# Altium footprint library THD LED Pad lib.PcbLib: 2 footprints
Each footprint in its own frame and in the unit in brackets; x right, y up, seen from the top. Pads: shape width x height; smd on the part's side, far side on the other; paste and mask are expansions set on the pad; w line width, h text height; cw(c..) or ccw(c..) is an arc to the next point about the centre after c.
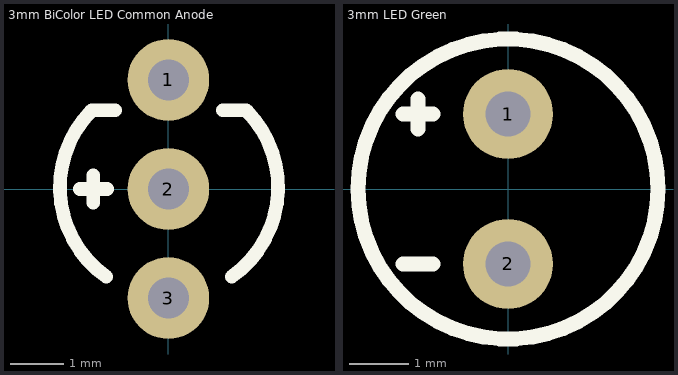
[diagram p0: the footprints below, top view; thin cyan lines are the x and y axes]

## 3mm BiColor LED Common Anode [mil]
pads (3):
  round 60 hole 30: 1(0,80) 2(0,0) 3(0,-80)
Top Overlay:
  lines w10: -65,0 -45,0 ; -55,-10 -55,10 ; -45.39,-64.36 cw(c0.49,1.17) -56.07,57.74 -39,57.74 ; 39.99,57.74 57.06,57.74 cw(c0.49,1.17) 46.38,-64.36
3D body "LED Round 3 mm BiColor.step": height 471.26, standoff -57.48, extent -78.74,-88.58 78.74,88.59

## 3mm LED Green [mil]
pads (2):
  round 60 hole 30: 1(0,50) 2(0,-50)
Top Overlay:
  circle w10: c0,0 r100
  lines w10: -70,-50 -50,-50 ; -70,50 -50,50 ; -60,40 -60,60
3D body "Led Round 3 mm Green.step": height 1131.1, standoff -112.99, extent -62.99,-62.99 63,63